# Altium schematic symbol library additional_elems.schlib: 4 symbols
Pins are listed as number, name and electrical type; pins without a type are passive.

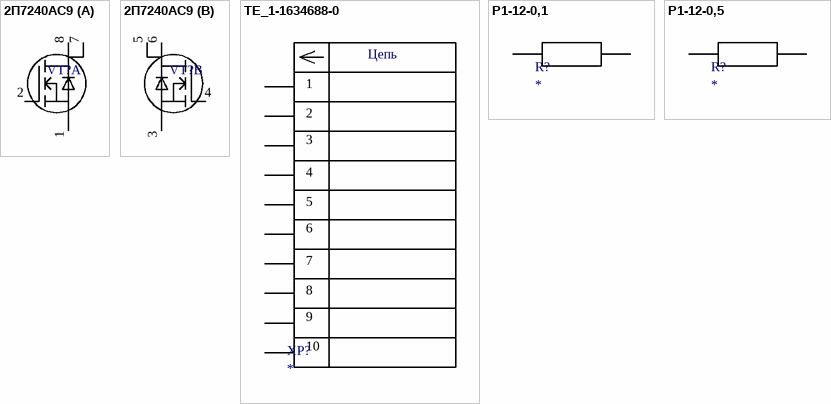
[diagram p0: symbols 2П7240AC9 to Р1-12-0,5]

## 2П7240AC9
designator VT?
Набор транзисторов 2П7240AС9 АЕЯР.432140.605 ТУ; Iз ут.: 100 нА |-100 нА¦; Iс нач: 25 мкА (Uси=100В); Rси отк._1: 0,085 Ом (Uзи=10В; Iс=4,1А); Rси отк._2: 0,170 Ом (Uзи=4,5В; Iс=2,2А); Uзи пор.: 1,5 - 2,5 В; Uис: 1,8 (Iи=3,5А; Uзи=0В); Uси max: 100 В
footprint 4320.8-A
footprint 4320.8-A
part A pins: 1, 2, 7, 8
part B pins: 3, 4, 5, 6 68

## TE_1-1634688-0
designator XP?
Вилка прямая TE_1-1634688-0 "TE Connectivity"; Case: BH-10R; Manufacturer: TE Connectivity; Name: Вилка прямая TE_1-1634688-0
footprint TE_1-1634688-0_IDC10_V
pins: 1, 2, 3, 4, 5, 6, 7, 8, 9, 10
text: Цепь

## Р1-12-0,1
designator R?
Резистор от 0,75 Ом до 2 МОм; Voltage: 200; Tolerance: 5%; Reliability: 0,000001; Hight: 0,5; Weight: 0,01; Size: 1206; Pin Count: 2
footprint Р1-12-0,1
pins: 1, 2

## Р1-12-0,5
designator R?
Резистор от 0,75 Ом до 2 МОм; Voltage: 200; Tolerance: 5%; Reliability: 0,000001; Hight: 0,5; Weight: 0,01; Size: 1206; Pin Count: 2
footprint Р1-12-0,5
pins: 1, 2